# EAGLE library part MRF24J40MA (library MRF24J40MA)
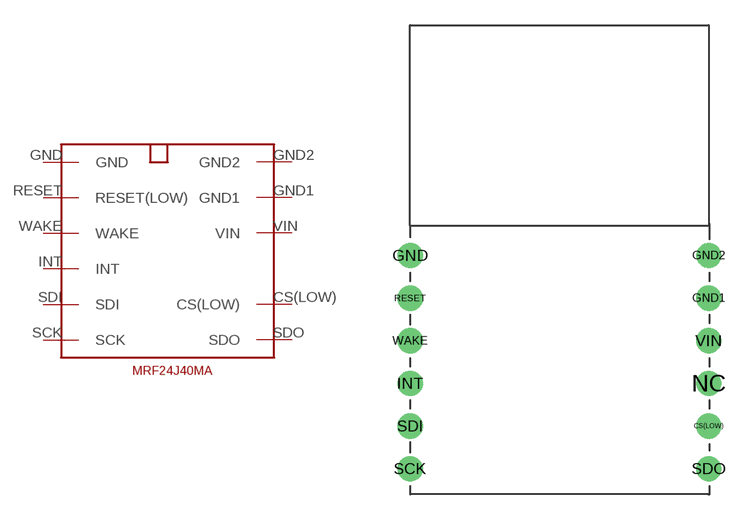
[diagram p0: symbol with the pads of MRF24J40MA; footprint MRF24J40MA]

Designator prefix -

## MRF24J40MA  [MRF24J40MA]
CS(LOW)  CS(LOW)
GND  GND
GND1  GND1
GND2  GND2
INT  INT
RESET  RESET(LOW)
SCK  SCK
SDI  SDI
SDO  SDO
VIN  VIN
WAKE  WAKE

## Footprint MRF24J40MA (pad centres in mm)
drill 1: CS(LOW) 16.764,4.064; GND -1.016,14.224; GND1 16.764,11.684; GND2 16.764,14.224; INT -1.016,6.604; NC 16.764,6.604; RESET -1.016,11.684; SCK -1.016,1.524; SDI -1.016,4.064; SDO 16.764,1.524; VIN 16.764,9.144; WAKE -1.016,9.144